# Altium footprint library DS_Lib.PcbLib: 69 footprints (part 1 of 5)
Each footprint in its own frame and in the unit in brackets; x right, y up, seen from the top. Pads: shape width x height; smd on the part's side, far side on the other; paste and mask are expansions set on the pad; w line width, h text height; cw(c..) or ccw(c..) is an arc to the next point about the centre after c.
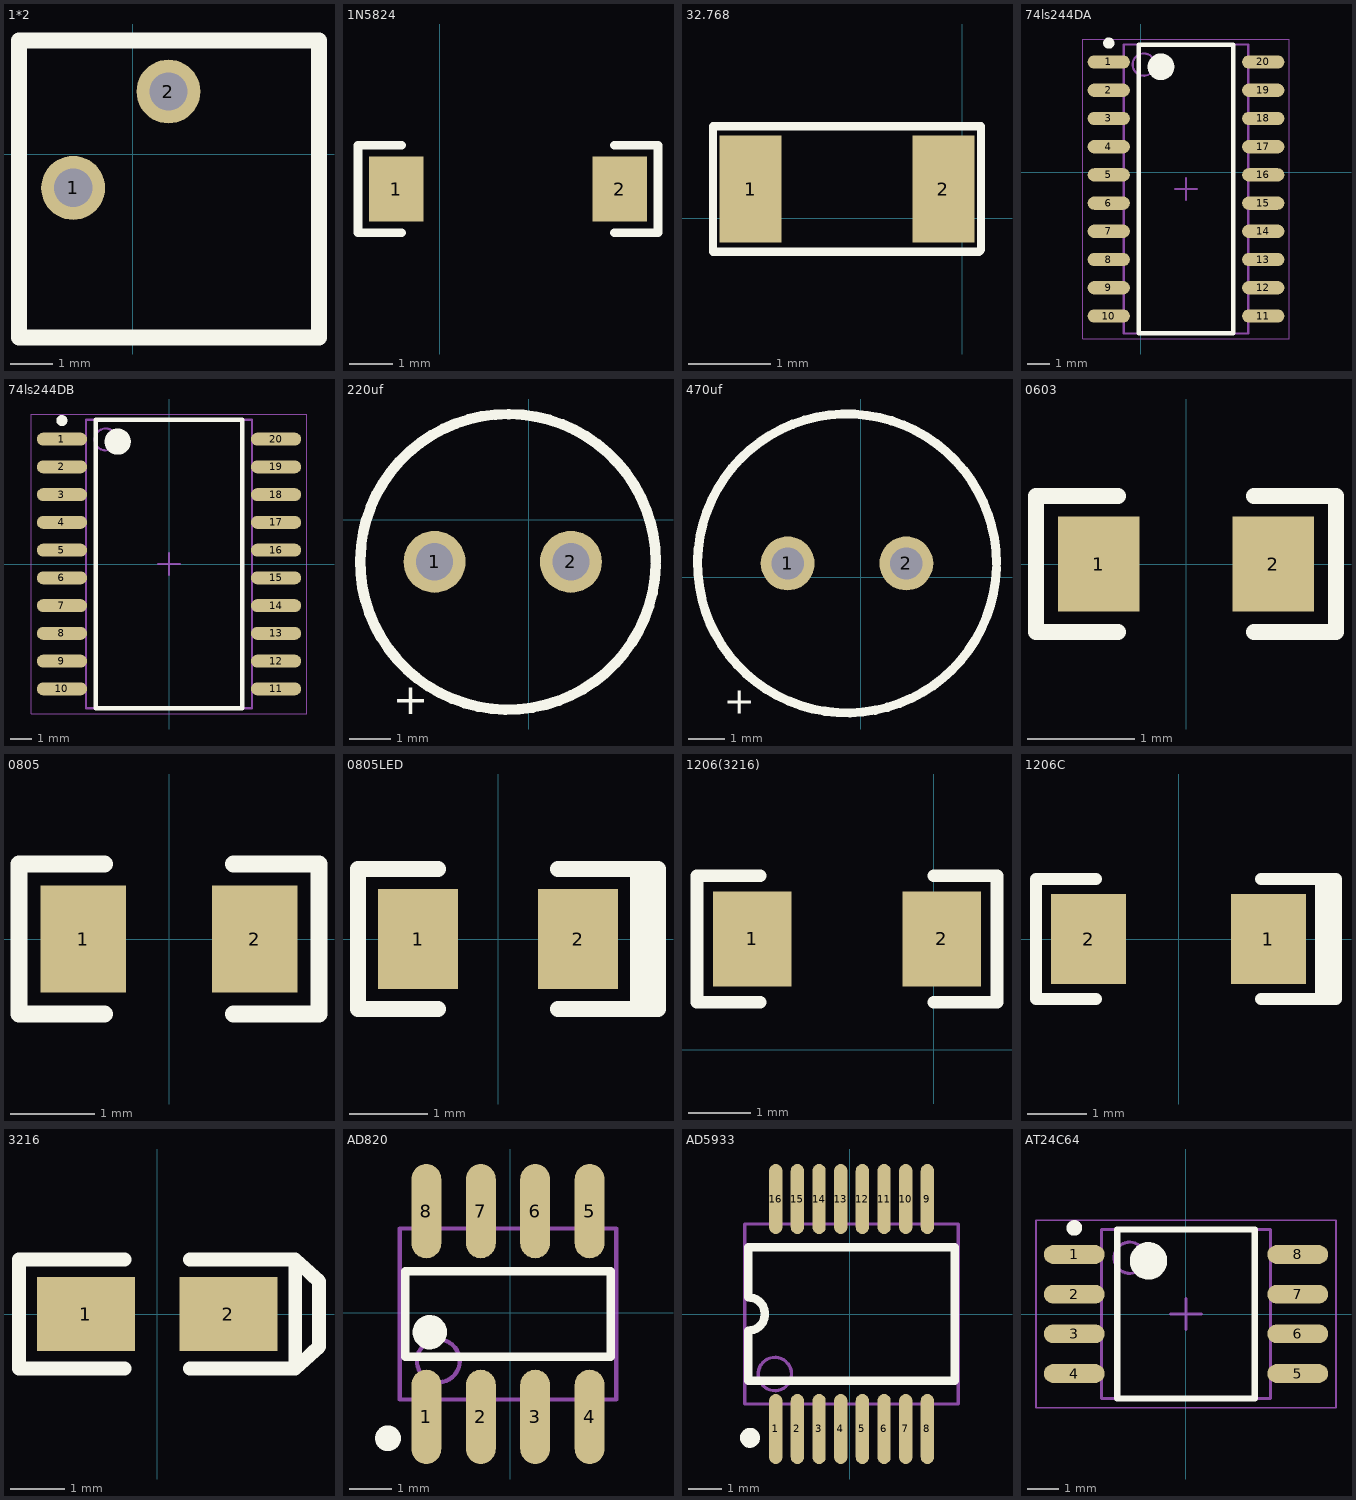
[diagram p0: the footprints below, top view; thin cyan lines are the x and y axes]

## 1*2 [mm]
pads (2):
  round 1.5 hole 0.9: 1(-1.397,-0.787) 2(0.838,1.473)
Top Overlay:
  lines w0.381: -2.667,-4.293 -2.667,2.667 4.369,2.667 4.369,-4.293 0.44,-4.293 -2.667,-4.293

## 1N5824 [mil]
pads (2):
  rect 50x60 smd: 1(-40,155) 2(165,155)
Top Overlay:
  lines w7.87: -75,115 -35,115 ; -75,195 -35,195 ; 160,115 200,115 ; 160,195 200,195
  lines w8: -75,115 -75,195 ; 200,115 200,195

## 32.768 [mm]
pads (2):
  rect 0.75x1.3 smd: 1(-2.565,0.356) 2(-0.229,0.356)
Top Overlay:
  lines w0.1: -3.023,-0.406 -3.023,1.118 -0.914,1.118 0.229,1.118 0.229,0.368 0.229,-0.279 0.229,-0.381 0.203,-0.406 0.102,-0.406 -0.914,-0.406 -3.023,-0.406

## 74ls244DA [mm]
pads (20):
  oval 1.9x0.6 smd: 1(-1.443,4.953) 2(-1.443,3.683) 3(-1.443,2.413) 4(-1.443,1.143) 5(-1.443,-0.127) 6(-1.443,-1.397) 7(-1.443,-2.667) 8(-1.443,-3.937) 9(-1.443,-5.207) 10(-1.443,-6.477) 11(5.507,-6.477) 12(5.507,-5.207) 13(5.507,-3.937) 14(5.507,-2.667) 15(5.507,-1.397) 16(5.507,-0.127) 17(5.507,1.143) 18(5.507,2.413) 19(5.507,3.683) 20(5.507,4.953)
Top Overlay:
  circle w0.6: c0.907,4.738 r0.3
  circle w0.25: c-1.443,5.803 r0.125
  lines w0.2: -0.093,-7.262 4.157,-7.262 4.157,5.738 -0.093,5.738 -0.093,-7.262
Mechanical 13:
  circle w0.1: c0.132,4.838 r0.5
  lines w0.1: -0.768,-7.262 4.832,-7.262 4.832,5.738 -0.768,5.738 -0.768,-7.262
Mechanical 15:
  lines w0.05: -2.618,-7.512 6.682,-7.512 6.682,5.988 -2.618,5.988 -2.618,-7.512
  lines w0.1: 1.532,-0.762 2.532,-0.762 ; 2.032,-1.262 2.032,-0.262
3D body: height 2.2, standoff 0.1, extent -0.768,-7.262 4.832,5.738

## 74ls244DB [mm] "SOP, 20-Leads, Body 13.00x7.50mm, Pitch 1.27mm, IPC Medium Density"
height 2.65
pads (20):
  oval 2.3x0.6 smd: 1(-4.9,5.715) 2(-4.9,4.445) 3(-4.9,3.175) 4(-4.9,1.905) 5(-4.9,0.635) 6(-4.9,-0.635) 7(-4.9,-1.905) 8(-4.9,-3.175) 9(-4.9,-4.445) 10(-4.9,-5.715) 11(4.9,-5.715) 12(4.9,-4.445) 13(4.9,-3.175) 14(4.9,-1.905) 15(4.9,-0.635) 16(4.9,0.635) 17(4.9,1.905) 18(4.9,3.175) 19(4.9,4.445) 20(4.9,5.715)
Top Overlay:
  circle w0.6: c-2.35,5.6 r0.3
  circle w0.25: c-4.9,6.565 r0.125
  lines w0.2: -3.35,-6.6 3.35,-6.6 3.35,6.6 -3.35,6.6 -3.35,-6.6
Mechanical 13:
  circle w0.1: c-2.9,5.7 r0.5
  lines w0.1: -3.8,-6.6 3.8,-6.6 3.8,6.6 -3.8,6.6 -3.8,-6.6
Mechanical 15:
  lines w0.05: -6.3,-6.85 6.3,-6.85 6.3,6.85 -6.3,6.85 -6.3,-6.85
  lines w0.1: -0.5,0 0.5,0 ; 0,-0.5 0,0.5
3D body: height 2.65, standoff 0.25, extent -3.8,-6.6 3.8,6.6

## 220uf [mm]
pads (2):
  round 1.5 hole 0.9: 1(-2.286,-1.016) 2(1.016,-1.016)
Top Overlay:
  lines w0.254: 3.067,-1.108 cw(c-0.508,-1.016) 3.068,-1.016
  text "+" at -3.302,-4.699 h0.76

## 470uf [mm]
pads (2):
  round 1.5 hole 0.9: 1(-2.032,0.381) 2(1.27,0.381)
Top Overlay:
  lines w0.254: 3.777,0.262 cw(c-0.381,0.381) 3.779,0.381
  text "+" at -3.81,-3.81 h0.76

## 0603 [mil]
pads (2):
  rect 30x35 smd: 1(-32,0) 2(32,0)
Top Overlay:
  lines w5.91: -25,-25 -55,-25 -55,25 -25,25 ; 25,-25 55,-25 55,25 25,25

## 0805 [mil]
pads (2):
  rect 40x50 smd: 1(-40,0) 2(40,0)
Top Overlay:
  lines w7.87: -70,-35 -30,-35 ; -70,35 -30,35 ; 30,-35 70,-35 ; 30,35 70,35
  lines w8: -70,-35 -70,35 ; 70,-35 70,35

## 0805LED [mil]
pads (2):
  rect 40x50 smd: 1(-40,0) 2(40,0)
Top Overlay:
  lines w7.87: -70,-35 -30,-35 ; -70,35 -30,35 ; 30,-35 80,-35 ; 30,35 80,35
  lines w8: -70,-35 -70,35 ; 70,-35 70,35 ; 75,-35 75,35 ; 80,-35 80,35

## 1206(3216) [mil]
pads (2):
  rect 50x60 smd: 1(-115,70) 2(5,70)
Top Overlay:
  lines w7.87: -150,30 -110,30 ; -150,110 -110,110 ; 0,30 40,30 ; 0,110 40,110
  lines w8: -150,30 -150,110 ; 40,30 40,110

## 1206C [mil]
pads (2):
  rect 50x60 smd: 1(60,0) 2(-60,0)
Top Overlay:
  lines w7.87: -95,-40 -55,-40 ; -95,40 -55,40 ; 55,-40 105,-40 ; 55,40 105,40
  lines w8: -95,-40 -95,40 ; 95,-40 95,40 ; 100,-40 100,40 ; 105,-40 105,40

## 3216 [mm]
pads (2):
  rect 1.8x1.35 smd: 1(-1.31,0) 2(1.31,0)
Top Overlay:
  lines w0.254: -0.6,-1.002 -2.537,-1.002 -2.537,1.002 -0.6,1.002 ; 0.6,-1.002 2.537,-1.002 ; 0.6,1.002 2.537,1.002 ; 2.537,-1.002 2.973,-0.6 2.973,0.6 2.537,1.002 ; 2.537,-1.002 2.537,1.002
3D body: height 1.71, standoff 0, extent -1.7,-0.84 1.7,0.84

## AD820 [mm]
pads (8):
  oval 0.7x2.2 smd: 1(-1.956,-2.425) 2(-0.686,-2.425) 3(0.584,-2.425) 4(1.854,-2.425) 5(1.854,2.375) 6(0.584,2.375) 7(-0.686,2.375) 8(-1.956,2.375)
Top Overlay:
  circle w0.4: c-1.876,-0.45 r0.2
  circle w0.3: c-2.851,-2.925 r0.15
  lines w0.2: -2.451,-1.025 -2.451,0.975 2.349,0.975 2.349,-1.025 -2.451,-1.025
Mechanical 13:
  circle w0.1: c-1.676,-1.12 r0.5
  lines w0.1: -2.576,-2.02 -2.576,1.97 2.474,1.97 2.474,-2.02 -2.576,-2.02

## AD5933 [mm]
pads (16):
  oval 0.4x2.1 smd mask+0.051: 1(-2.225,-3.45) 2(-1.575,-3.45) 3(-0.925,-3.45) 4(-0.275,-3.45) 5(0.375,-3.45) 6(1.025,-3.45) 7(1.675,-3.45) 8(2.325,-3.45) 9(2.325,3.45) 10(1.675,3.45) 11(1.025,3.45) 12(0.375,3.45) 13(-0.275,3.45) 14(-0.925,3.45) 15(-1.575,3.45) 16(-2.225,3.45)
Top Overlay:
  circle w0.3: c-2.997,-3.715 r0.15
  lines w0.254: -3.05,-2 -3.05,-0.5 ccw(c-3.05,0) -3.05,0.5 -3.05,2 3.15,2 3.15,-2 -3.05,-2
Mechanical 13:
  circle w0.1: c-2.25,-1.8 r0.5
  lines w0.1: -3.15,-2.7 3.25,-2.7 3.25,2.7 -3.15,2.7 -3.15,-2.7

## AT24C64 [mm] "SOIC, 8-Leads, Body 5.27x5.27mm, Pitch 1.27mm, IPC Medium Density"
height 2.03
pads (8):
  oval 1.95x0.6 smd: 1(-3.575,1.905) 2(-3.575,0.635) 3(-3.575,-0.635) 4(-3.575,-1.905) 5(3.575,-1.905) 6(3.575,-0.635) 7(3.575,0.635) 8(3.575,1.905)
Top Overlay:
  circle w0.25: c-3.575,2.755 r0.125
  circle w0.6: c-1.2,1.7 r0.3
  lines w0.2: -2.2,-2.7 -2.2,2.7 2.2,2.7 2.2,-2.7 -2.2,-2.7
Mechanical 13:
  circle w0.1: c-1.8,1.8 r0.5
  lines w0.1: -2.7,-2.7 -2.7,2.7 2.7,2.7 2.7,-2.7 -2.7,-2.7
Mechanical 15:
  lines w0.05: -4.8,-3 -4.8,3 4.8,3 4.8,-3 -4.8,-3
  lines w0.1: -0.5,0 0.5,0 ; 0,-0.5 0,0.5
3D body: height 2.03, standoff 0.33, extent -2.7,-2.7 2.7,2.7